# EAGLE library part 6-104078-3 (library 6-104078-3)
Check availability <https://pricing.snapeda.com/parts/6-104078-3/TE%20Connectivity/view-part?ref=eda>
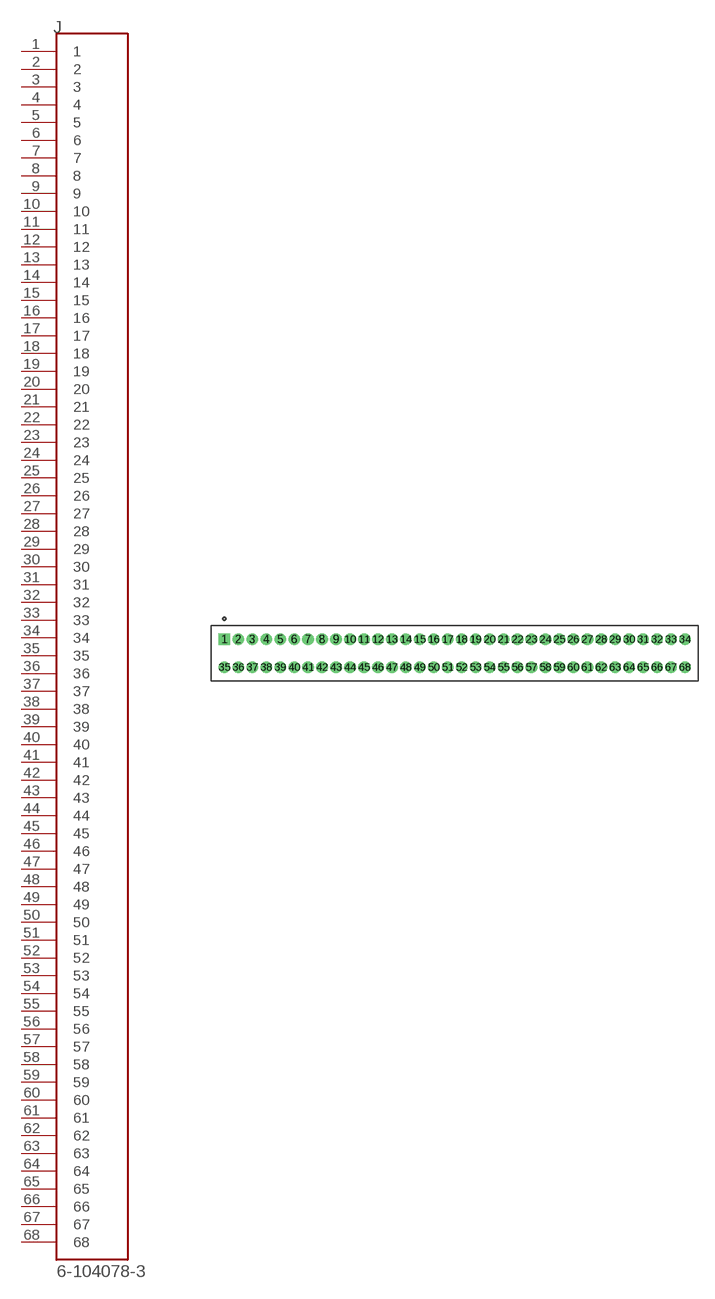
[diagram p0: symbol with the pads of TE_6-104078-3; footprint TE_6-104078-3]

Designator prefix J

## 6-104078-3 (AVAILABILITY: In Stock; COMMENT: 6-104078-3; DESCRIPTION: Conn Socket Strip RCP 68 POS 1.27mm Solder ST Thru-Hole Tube; EU_ROHS_COMPLIANCE: Compliant; MF: TE Connectivity; MP: 6-104078-3; PACKAGE: None; PRICE: None; PURCHASE-URL: https://pricing.snapeda.com/search/part/6-104078-3/?ref=eda)  [TE_6-104078-3]
1  1  pas
2  2  pas
3  3  pas
4  4  pas
5  5  pas
6  6  pas
7  7  pas
8  8  pas
9  9  pas
10  10  pas
11  11  pas
12  12  pas
13  13  pas
14  14  pas
15  15  pas
16  16  pas
17  17  pas
18  18  pas
19  19  pas
20  20  pas
21  21  pas
22  22  pas
23  23  pas
24  24  pas
25  25  pas
26  26  pas
27  27  pas
28  28  pas
29  29  pas
30  30  pas
31  31  pas
32  32  pas
33  33  pas
34  34  pas
35  35  pas
36  36  pas
37  37  pas
38  38  pas
39  39  pas
40  40  pas
41  41  pas
42  42  pas
43  43  pas
44  44  pas
45  45  pas
46  46  pas
47  47  pas
48  48  pas
49  49  pas
50  50  pas
51  51  pas
52  52  pas
53  53  pas
54  54  pas
55  55  pas
56  56  pas
57  57  pas
58  58  pas
59  59  pas
60  60  pas
61  61  pas
62  62  pas
63  63  pas
64  64  pas
65  65  pas
66  66  pas
67  67  pas
68  68  pas

## Footprint TE_6-104078-3 (pad centres in mm)
drill 0.56 pad 0.89 square: 1 -20.955,1.27
drill 0.56 pad 0.89: 2 -19.685,1.27; 3 -18.415,1.27; 4 -17.145,1.27; 5 -15.875,1.27; 6 -14.605,1.27; 7 -13.335,1.27; 8 -12.065,1.27; 9 -10.795,1.27; 10 -9.525,1.27; 11 -8.255,1.27; 12 -6.985,1.27; 13 -5.715,1.27; 14 -4.445,1.27; 15 -3.175,1.27; 16 -1.905,1.27; 17 -0.635,1.27; 18 0.635,1.27; 19 1.905,1.27; 20 3.175,1.27; 21 4.445,1.27; 22 5.715,1.27; 23 6.985,1.27; 24 8.255,1.27; 25 9.525,1.27; 26 10.795,1.27; 27 12.065,1.27; 28 13.335,1.27; 29 14.605,1.27; 30 15.875,1.27; 31 17.145,1.27; 32 18.415,1.27; 33 19.685,1.27; 34 20.955,1.27; 35 -20.955,-1.27; 36 -19.685,-1.27; 37 -18.415,-1.27; 38 -17.145,-1.27; 39 -15.875,-1.27; 40 -14.605,-1.27; 41 -13.335,-1.27; 42 -12.065,-1.27; 43 -10.795,-1.27; 44 -9.525,-1.27; 45 -8.255,-1.27; 46 -6.985,-1.27; 47 -5.715,-1.27; 48 -4.445,-1.27; 49 -3.175,-1.27; 50 -1.905,-1.27; 51 -0.635,-1.27; 52 0.635,-1.27; 53 1.905,-1.27; 54 3.175,-1.27; 55 4.445,-1.27; 56 5.715,-1.27; 57 6.985,-1.27; 58 8.255,-1.27; 59 9.525,-1.27; 60 10.795,-1.27; 61 12.065,-1.27; 62 13.335,-1.27; 63 14.605,-1.27; 64 15.875,-1.27; 65 17.145,-1.27; 66 18.415,-1.27; 67 19.685,-1.27; 68 20.955,-1.27